# Altium footprint library Mclock.PcbLib: 6 footprints
Each footprint in its own frame and in the unit in brackets; x right, y up, seen from the top. Pads: shape width x height; smd on the part's side, far side on the other; paste and mask are expansions set on the pad; w line width, h text height; cw(c..) or ccw(c..) is an arc to the next point about the centre after c.
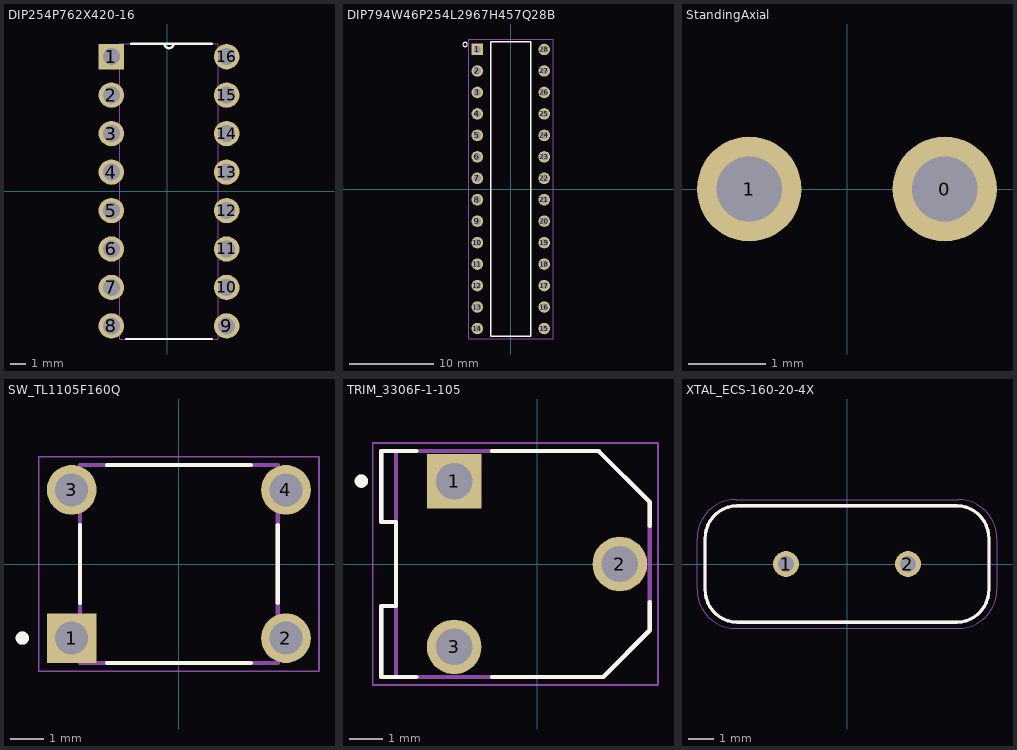
[diagram p0: the footprints below, top view; thin cyan lines are the x and y axes]

## DIP254P762X420-16 [mil]
pads (16):
  rect 66x66 / inner round 66 / far side rect 66x66 hole 44: 1(-145,350)
  round 66 hole 44: 2(-145,250) 3(-145,150) 4(-145,50) 5(-145,-50) 6(-145,-150) 7(-145,-250) 8(-145,-350) 9(155,-350) 10(155,-250) 11(155,-150) 12(155,-50) 13(155,50) 14(155,150) 15(155,250) 16(155,350)
Top Overlay:
  lines w6: -106,-384 116,-384 ; -93,384 -7,384 ; 116,384 17,384 ; -7,384 ccw(c5,384) 17,384 ; -7,384 17,384
Mechanical 13:
  lines w0: -7,384 ccw(c5,384) 17,384 ; -7,384 -123,384 -123,-384 133,-384 133,384 17,384 ; -7,384 17,384 ; -167,-372 -123,-372 -123,-328 -167,-328 -167,-372 ; -167,-272 -167,-228 -123,-228 -123,-272 -167,-272 ; -167,-172 -123,-172 -123,-128 -167,-128 -167,-172 ; -167,-72 -167,-28 -123,-28 -123,-72 -167,-72 ; -167,28 -123,28 -123,72 -167,72 -167,28 ; -167,128 -123,128 -123,172 -167,172 -167,128 ; -167,228 -167,272 -123,272 -123,228 -167,228 ; -167,328 -167,372 -123,372 -123,328 -167,328 ; 133,-372 177,-372 177,-328 133,-328 133,-372 ; 133,-272 133,-228 177,-228 177,-272 133,-272 ; 133,-172 177,-172 177,-128 133,-128 133,-172 ; 133,-72 133,-28 177,-28 177,-72 133,-72 ; 133,28 133,72 177,72 177,28 133,28 ; 133,128 133,172 177,172 177,128 133,128 ; 133,228 133,272 177,272 177,228 133,228 ; 133,328 133,372 177,372 177,328 133,328
3D body "step_temp.STEP": height 165.35, standoff -130.91, extent -180.88,-374.51 190.88,374.51

## DIP794W46P254L2967H457Q28B [mm]
pads (28):
  rect 1.358x1.358 hole 0.85: 1(-3.96,16.51)
  round 1.358 hole 0.85: 2(-3.96,13.97) 3(-3.96,11.43) 4(-3.96,8.89) 5(-3.96,6.35) 6(-3.96,3.81) 7(-3.96,1.27) 8(-3.96,-1.27) 9(-3.96,-3.81) 10(-3.96,-6.35) 11(-3.96,-8.89) 12(-3.96,-11.43) 13(-3.96,-13.97) 14(-3.96,-16.51) 15(3.96,-16.51) 16(3.96,-13.97) 17(3.96,-11.43) 18(3.96,-8.89) 19(3.96,-6.35) 20(3.96,-3.81) 21(3.96,-1.27) 22(3.96,1.27) 23(3.96,3.81) 24(3.96,6.35) 25(3.96,8.89) 26(3.96,11.43) 27(3.96,13.97) 28(3.96,16.51)
Top Overlay:
  circle w0: c-5.4,17.1 r0.254
  lines w0.152: -2.38,-17.4 -2.38,17.4 2.38,17.4 2.38,-17.4 -2.38,-17.4
Mechanical 15:
  lines w0.05: -5,-17.75 5,-17.75 5,17.75 -5,17.75 -5,-17.75
3D body "ATMEGA328P-PU--3DModel-STEP-56544.STEP": height 4.57, standoff -3.43, extent -3.95,-17.335 3.95,17.336

## StandingAxial [mm]
pads (2):
  round 1.358 hole 0.85: 0(1.27,0) 1(-1.27,0)
3D body: height 2.54, standoff 0, extent 0,-0.445 1.651,0.448

## SW_TL1105F160Q [mm]
pads (4):
  rect 1.508x1.508 / inner round 1.508 / far side rect 1.508x1.508 hole 1: 1(-3.25,-2.25)
  round 1.508 hole 1: 2(3.25,-2.25) 3(-3.25,2.25) 4(3.25,2.25)
Top Overlay:
  circle w0.2: c-4.75,-2.25 r0.1
  lines w0.127: -3,-1.182 -3,1.182 ; -2.183,-3 2.183,-3 ; -2.183,3 2.183,3 ; 3,-1.182 3,1.182
Mechanical 13:
  circle w0.2: c-4.75,-2.25 r0.1
  lines w0.127: -3,-3 3,-3 3,3 -3,3 -3,-3
Mechanical 15:
  lines w0.05: -4.254,-3.254 -4.254,3.254 4.254,3.254 4.254,-3.254 -4.254,-3.254
3D body "step_temp.STEP": height 4.3, standoff -3.55, extent -3.947,-3 3.947,3

## TRIM_3306F-1-105 [mm]
pads (3):
  rect 1.65x1.65 hole 1.1: 1(-2.5,2.5)
  round 1.65 hole 1.1: 2(2.5,0) 3(-2.5,-2.5)
Top Overlay:
  circle w0.2: c-5.3,2.5 r0.1
  lines w0.127: -3.645,-3.405 -4.7,-3.405 -4.7,-1.27 -4.25,-1.27 -4.25,1.27 -4.7,1.27 -4.7,3.405 -3.645,3.405 ; -1.355,-3.405 2,-3.405 3.4,-2 3.4,-1.15 ; -1.355,3.405 1.86,3.405 3.4,1.87 3.4,1.15
Mechanical 13:
  circle w0.2: c-5.3,2.5 r0.1
  lines w0.127: -4.25,-3.405 2,-3.405 3.4,-2 3.4,1.87 1.86,3.405 -4.25,3.405 ; -4.25,-3.405 -4.25,-1.27 ; -4.25,-3.405 -4.7,-3.405 -4.7,-1.27 -4.25,-1.27 ; -4.25,-1.27 -4.25,1.27 ; -4.25,1.27 -4.25,3.405 ; -4.25,1.27 -4.7,1.27 -4.7,3.405 -4.25,3.405
Mechanical 15:
  lines w0.05: -4.95,-3.65 -4.95,3.65 3.65,3.65 3.65,-3.65 -4.95,-3.65
3D body "step_temp.STEP": height 8.38, standoff -3.81, extent -4.7,-3.405 3.4,3.405

## XTAL_ECS-160-20-4X [mm]
pads (2):
  round 1.03 hole 0.63: 1(-2.44,0) 2(2.44,0)
Top Overlay:
  lines w0.127: -5.675,-1.012 ccw(c-4.38,-1.035) -4.403,-2.33 ; -5.675,-1.01 -5.675,1.01 ; -5.675,1.012 cw(c-4.38,1.035) -4.403,2.33 ; -4.405,-2.33 4.405,-2.33 ; -4.405,2.33 4.405,2.33 ; 4.403,-2.33 ccw(c4.38,-1.035) 5.675,-1.012 ; 4.403,2.33 cw(c4.38,1.035) 5.675,1.012 ; 5.675,-1.01 5.675,1.01
Mechanical 13:
  lines w0.127: -5.675,-1.012 ccw(c-4.38,-1.035) -4.403,-2.33 ; -5.675,-1.01 -5.675,1.01 ; -5.675,1.012 cw(c-4.38,1.035) -4.403,2.33 ; -4.405,-2.33 4.405,-2.33 ; -4.405,2.33 4.405,2.33 ; 4.403,-2.33 ccw(c4.38,-1.035) 5.675,-1.012 ; 4.403,2.33 cw(c4.38,1.035) 5.675,1.012 ; 5.675,-1.01 5.675,1.01
Mechanical 15:
  lines w0.05: -6,-1.01 ccw(c-4.43,-1.01) -4.43,-2.58 4.43,-2.58 ccw(c4.43,-1.01) 6,-1.01 6,1.01 ccw(c4.43,1.01) 4.43,2.58 -4.43,2.58 ccw(c-4.43,1.01) -6,1.01 -6,-1.01
3D body "ECS-160-S-4.STEP": height 3.5, standoff -12.7, extent -5.675,-2.325 5.675,2.325